# Altium schematic symbol library Amplifier_Audio.SchLib: 106 symbols (part 2 of 2)
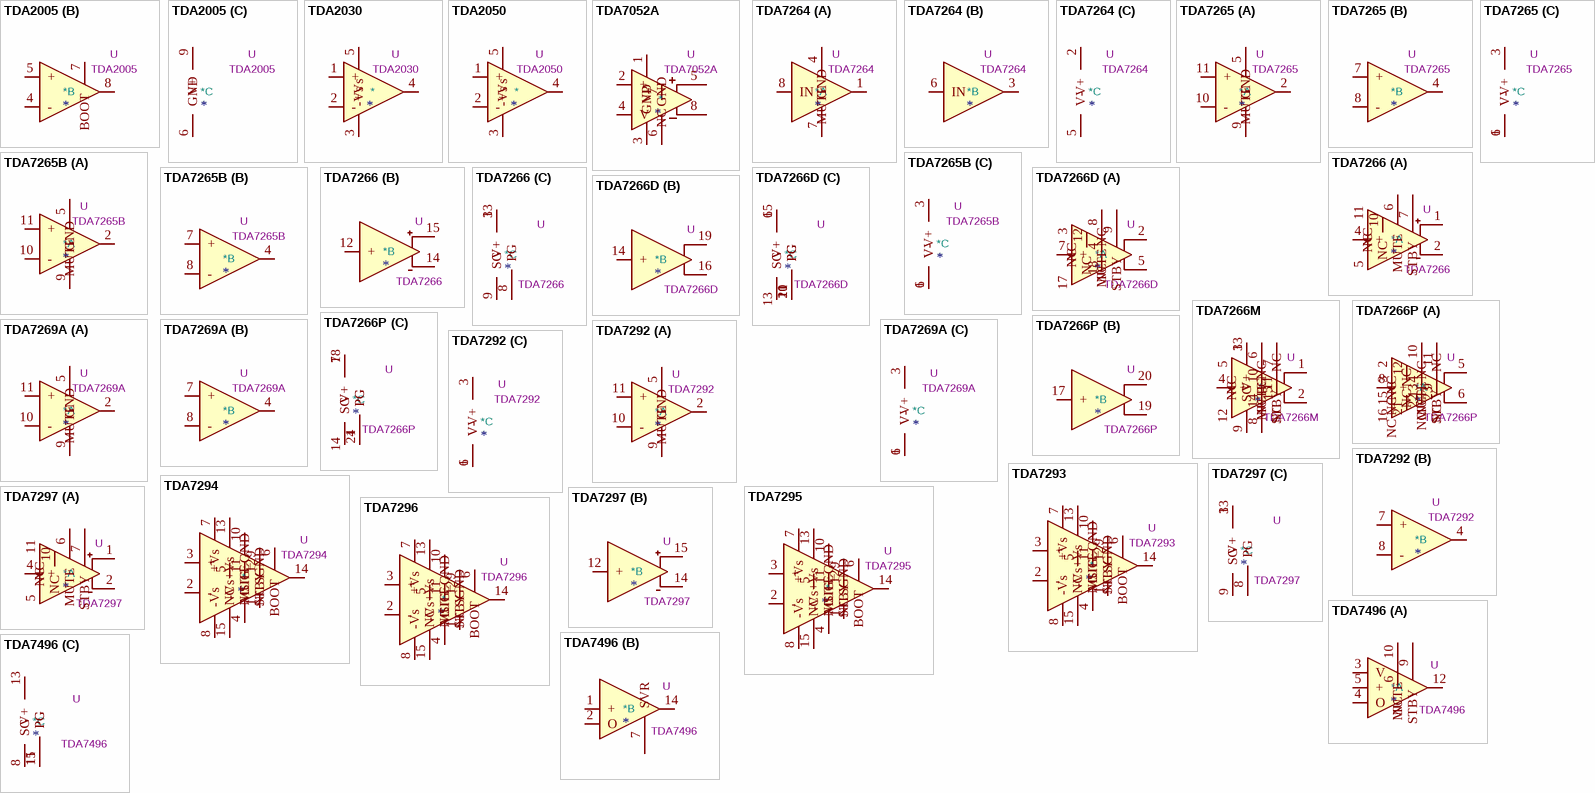
[diagram p5: symbols TDA2005 to TDA7496]

## TDA7266P
designator *  value TDA7266P  Reference: U
3W+3W Dual Bridge Amplifier, PowerSSO-24; ki_keywords: audio amplifier 2ch; ki_fp_filters: ST*PowerSSO*SlugDown*; Footprint: Package_SO:ST_PowerSSO-24_SlugDown; Datasheet: http://www.st.com/resource/en/datasheet/tda7266p.pdf; Description_: 3W+3W Dual Bridge Amplifier, PowerSSO-24
part A pins: 2 NC, 3 NC, 4 NC, 5, 6, 8 +, 9 NC, 10 MUTE, 11 STBY, 12 NC, 13 NC, 15 NC, 16 NC, 21 NC, 22 NC, 23 NC
part B pins: 17 +, 19, 20
part C pins: 1 PG, 7 V+, 14 SG, 18 V+, 24 PG

## TDA7269A
designator *  value TDA7269A  Reference: U
14W+14W Stereo Amplifier with Mute & St-by, TO-220-11; ki_keywords: audio amplfier 2ch; ki_fp_filters: TO?220*StaggerOdd*; Footprint: Package_TO_SOT_THT:TO-220-11_P3.4x5.08mm_StaggerOdd_Lead4.85mm_Vertical; Datasheet: http://www.st.com/resource/en/datasheet/tda7269a.pdf; Description_: 14W+14W Stereo Amplifier with Mute & St-by, TO-220-11
part A pins: 2, 5 MUTE, 9 GND, 10 -, 11 +
part B pins: 4, 7 +, 8 -
part C pins: 1 V-, 3 V+, 6 V-

## TDA7292
designator *  value TDA7292  Reference: U
40W + 40W stereo amplifier with mute and standby, TO-220-11; ki_keywords: audio amplifier 2ch; ki_fp_filters: TO?220*StaggerOdd*; Footprint: Package_TO_SOT_THT:TO-220-11_P3.4x5.08mm_StaggerOdd_Lead4.85mm_Vertical; Datasheet: http://www.st.com/resource/en/datasheet/tda7292.pdf; Description_: 40W + 40W stereo amplifier with mute and standby, TO-220-11
part A pins: 2, 5 MUTE, 9 GND, 10 -, 11 +
part B pins: 4, 7 +, 8 -
part C pins: 1 V-, 3 V+, 6 V-

## TDA7293
designator *  value TDA7293  Reference: U
120-volt, 100-watt, DMOS Audio Amplifier with Mute and Standby, TO-220-15; ki_fp_filters: TO?220*StaggerOdd*; Footprint: Package_TO_SOT_THT:TO-220-15_P2.54x2.54mm_StaggerOdd_Lead4.58mm_Vertical; Datasheet: http://www.st.com/resource/en/datasheet/tda7293.pdf; Description_: 120-volt, 100-watt, DMOS Audio Amplifier with Mute and Standby, TO-220-15; ki_keywords: audio amplifier
pins: 1 SGND, 2 -, 3 +, 4 SIG_GND, 5 NC, 6 BOOT, 7 +Vs, 8 -Vs, 9 STBY, 10 MUTE, 11 NC, 12 NC, 13 +Vs, 14, 15 -Vs

## TDA7294
designator *  value TDA7294  Reference: U
100V - 100W DMOS Audio Amplifier with Mute/St-by, TO-220-15; ki_fp_filters: TO?220*StaggerOdd*; Footprint: Package_TO_SOT_THT:TO-220-15_P2.54x2.54mm_StaggerOdd_Lead4.58mm_Vertical; Datasheet: http://www.st.com/resource/en/datasheet/tda7294.pdf; Description_: 100V - 100W DMOS Audio Amplifier with Mute/St-by, TO-220-15; ki_keywords: audio amplifier
pins: 1 SGND, 2 -, 3 +, 4 SIG_GND, 5 NC, 6 BOOT, 7 +Vs, 8 -Vs, 9 STBY, 10 MUTE, 11 NC, 12 NC, 13 +Vs, 14, 15 -Vs

## TDA7295
designator *  value TDA7295  Reference: U
80V - 80W DMOS Audio Amplifier with Mute/St-by, TO-220-15; ki_fp_filters: TO?220*StaggerOdd*; Footprint: Package_TO_SOT_THT:TO-220-15_P2.54x2.54mm_StaggerOdd_Lead4.58mm_Vertical; Datasheet: http://www.st.com/resource/en/datasheet/tda7295.pdf; Description_: 80V - 80W DMOS Audio Amplifier with Mute/St-by, TO-220-15; ki_keywords: audio amplifier
pins: 1 SGND, 2 -, 3 +, 4 SIG_GND, 5 NC, 6 BOOT, 7 +Vs, 8 -Vs, 9 STBY, 10 MUTE, 11 NC, 12 NC, 13 +Vs, 14, 15 -Vs

## TDA7296
designator *  value TDA7296  Reference: U
70V - 60W DMOS Audio Amplifier with Mute/St-by, TO-220-15; ki_fp_filters: TO?220*StaggerOdd*; Footprint: Package_TO_SOT_THT:TO-220-15_P2.54x2.54mm_StaggerOdd_Lead4.58mm_Vertical; Datasheet: http://www.st.com/resource/en/datasheet/tda7296.pdf; Description_: 70V - 60W DMOS Audio Amplifier with Mute/St-by, TO-220-15; ki_keywords: audio amplifier
pins: 1 SGND, 2 -, 3 +, 4 SIG_GND, 5 NC, 6 BOOT, 7 +Vs, 8 -Vs, 9 STBY, 10 MUTE, 11 NC, 12 NC, 13 +Vs, 14, 15 -Vs

## TDA7297
designator *  value TDA7297  Reference: U
15+15W Dual Bridge Amplifier, TO-220-15; ki_keywords: audio amplifier 2ch; ki_fp_filters: TO?220*StaggerOdd*; Footprint: Package_TO_SOT_THT:TO-220-15_P2.54x2.54mm_StaggerOdd_Lead4.58mm_Vertical; Datasheet: http://www.st.com/resource/en/datasheet/tda7297.pdf; Description_: 15+15W Dual Bridge Amplifier, TO-220-15
part A pins: 1, 2, 4 +, 5 NC, 6 MUTE, 7 STBY, 10 NC, 11 NC
part B pins: 12 +, 14, 15
part C pins: 3 V+, 8 PG, 9 SG, 13 V+

## TDA7496
designator *  value TDA7496  Reference: U
5W+5W Amplifier with DC Volume Control, TO-220-15; ki_keywords: audio amplifier 2ch; ki_fp_filters: TO?220*StaggerOdd*; Footprint: Package_TO_SOT_THT:TO-220-15_P2.54x2.54mm_StaggerOdd_Lead4.58mm_Vertical; Datasheet: http://www.st.com/resource/en/datasheet/tda7297.pdf; Description_: 5W+5W Amplifier with DC Volume Control, TO-220-15
part A pins: 3 V, 4 O, 5 +, 6 NC, 9 STBY, 10 MUTE, 12
part B pins: 1 +, 2 O, 7 SVR, 14
part C pins: 8 SG, 11 PG, 13 V+, 15 PG

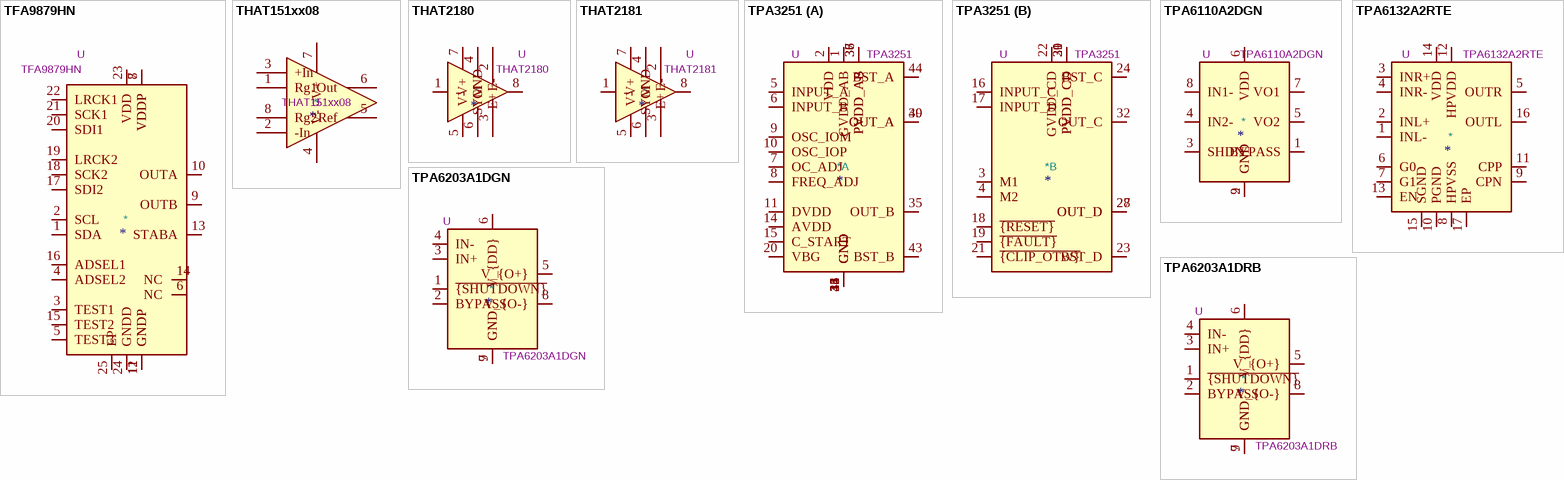
[diagram p4: symbols TFA9879HN to TPA6203A1DRB]

## TFA9879HN
designator *  value TFA9879HN  Reference: U
Mono BTL class-D audio amplifier for portable applications with digital input, HVQFN-24; ki_keywords: Audio Amplifier Class D NXP Semiconductors; ki_fp_filters: HVQFN*1EP*4x4mm*P0.5mm*; Footprint: Package_DFN_QFN:HVQFN-24-1EP_4x4mm_P0.5mm_EP2.6x2.6mm_ThermalVias; Datasheet: https://www.nxp.com/docs/en/data-sheet/TFA9879.pdf; Description_: Mono BTL class-D audio amplifier for portable applications with digital input, HVQFN-24
pins: 1 SDA, 2 SCL, 3 TEST1, 4 ADSEL2, 5 TEST3, 6 NC, 7 VDDP, 8 VDDP, 9 OUTB, 10 OUTA, 11 GNDP, 12 GNDP, 13 STABA, 14 NC, 15 TEST2, 16 ADSEL1, 17 SDI2, 18 SCK2, 19 LRCK2, 20 SDI1, 21 SCK1, 22 LRCK1, 23 VDD, 24 GNDD, 25 EP

## THAT151xx08
designator *  value THAT151xx08  Reference: U
Low-Noise, High Performance Audio Preamplifier IC; ki_fp_filters: DIP*W7.62mm* SOIC*3.9x4.9mm*P1.27mm*; Datasheet: https://www.thatcorp.com/datashts/THAT_1510-1512_Datasheet.pdf; Description_: Low-Noise, High Performance Audio Preamplifier IC; ki_keywords: Audio Preamplifier
pins: 1 Rg1, 2 -In, 3 +In, 4 V-, 5 Ref, 6 Out, 7 V+, 8 Rg2

## THAT2180
designator *  value THAT2180  Reference: U
Blackmer Pre-Trimmed IC Voltage Controlled Amplifiers, SIP-8; ki_keywords: audio vca; ki_fp_filters: SIP*19x3mm*P2.54mm*; Footprint: Package_SIP:SIP-8_19x3mm_P2.54mm; Datasheet: http://www.thatcorp.com/datashts/THAT_2180-Series_Datasheet.pdf; Description_: Blackmer Pre-Trimmed IC Voltage Controlled Amplifiers, SIP-8
pins: 1 -, 2 E+, 3 E-, 4 SYM, 5 V-, 6 GND, 7 V+, 8

## THAT2181
designator *  value THAT2181  Reference: U
Blackmer Trimmable IC Voltage Controlled Amplifiers, SIP-8/SOIC-8; ki_keywords: audio vca; ki_fp_filters: SIP*19x3mm*P2.54mm* SOIC*3.9x4.9mm*P1.27mm*; Datasheet: http://www.thatcorp.com/datashts/THAT_2181-Series_Datasheet.pdf; Description_: Blackmer Trimmable IC Voltage Controlled Amplifiers, SIP-8/SOIC-8
pins: 1 -, 2 E+, 3 E-, 4 SYM, 5 V-, 6 GND, 7 V+, 8

## TPA3251
designator *  value TPA3251  Reference: U
175-W Stereo, 350-W Mono PurePath Ultra-HD Analog-Input Class-D Amplifier, HTSSOP-44; ki_keywords: stereo class d amplifier; ki_fp_filters: HTSSOP*6.1x14mm*P0.635mm*; Footprint: Package_SO:HTSSOP-44_6.1x14mm_P0.635mm_TopEP4.14x7.01mm; Datasheet: http://www.ti.com/lit/ds/symlink/tpa3251.pdf; Description_: 175-W Stereo, 350-W Mono PurePath Ultra-HD Analog-Input Class-D Amplifier, HTSSOP-44
part A pins: 1 GVDD_AB, 2 VDD, 5 INPUT_A, 6 INPUT_B, 7 OC_ADJ, 8 FREQ_ADJ, 9 OSC_IOM, 10 OSC_IOP, 11 DVDD, 12 GND, 13 GND, 14 AVDD, 15 C_START, 20 VBG, 25 GND, 26 GND, 33 GND, 34 GND, 35 OUT_B, 36 PVDD_AB, 37 PVDD_AB, 38 PVDD_AB, 39 OUT_A, 40 OUT_A, 41 GND, 42 GND, 43 BST_B, 44 BST_A
part B pins: 3 M1, 4 M2, 16 INPUT_C, 17 INPUT_D, 18 ~{{RESET}}, 19 ~{{FAULT}}, 21 ~{{CLIP_OTW}}, 22 GVDD_CD, 23 BST_D, 24 BST_C, 27 OUT_D, 28 OUT_D, 29 PVDD_CD, 30 PVDD_CD, 31 PVDD_CD, 32 OUT_C

## TPA6110A2DGN
designator *  value TPA6110A2DGN  Reference: U
150-mW Stereo Audio Power Amplifier, HVSSOP; ki_keywords: audio amplifier headphone; ki_fp_filters: HVSSOP*3x3mm*P0.65mm*; Footprint: Package_SO:HVSSOP-8-1EP_3x3mm_P0.65mm_EP1.57x1.89mm; Datasheet: https://www.ti.com/lit/ds/symlink/tpa6110a2.pdf; Description_: 150-mW Stereo Audio Power Amplifier, HVSSOP
pins: 1 BYPASS, 2 GND, 3 SHDN, 4 IN2-, 5 VO2, 6 VDD, 7 VO1, 8 IN1-, 9 GND

## TPA6132A2RTE
designator *  value TPA6132A2RTE  Reference: U
25mW, Stereo, DirectPath Audio Amplifier, WQFN-16; ki_keywords: DirectPath audio amplifier Stereo; ki_fp_filters: WQFN*1EP*3x3mm*P0.5mm*; Footprint: Package_DFN_QFN:WQFN-16-1EP_3x3mm_P0.5mm_EP1.6x1.6mm_ThermalVias; Datasheet: https://www.ti.com/lit/ds/symlink/tpa6132a2.pdf; Description_: 25mW, Stereo, DirectPath Audio Amplifier, WQFN-16
pins: 1 INL-, 2 INL+, 3 INR+, 4 INR-, 5 OUTR, 6 G0, 7 G1, 8 HPVSS, 9 CPN, 10 PGND, 11 CPP, 12 HPVDD, 13 EN, 14 VDD, 15 SGND, 16 OUTL, 17 EP

## TPA6203A1DGN
designator *  value TPA6203A1DGN  Reference: U
1.25W, Mono, Differential Audio Amplifier, MSOP-8; ki_keywords: Differential audio amplifier Mono; ki_fp_filters: MSOP*1EP*3x3mm*P0.65mm*; Footprint: Package_SO:MSOP-8-1EP_3x3mm_P0.65mm_EP1.95x2.15mm_ThermalVias; Datasheet: https://www.ti.com/lit/ds/symlink/tpa6203a1.pdf; Description_: 1.25W, Mono, Differential Audio Amplifier, MSOP-8
pins: 1 ~{{SHUTDOWN}}, 2 BYPASS, 3 IN+, 4 IN-, 5 V_{O+}, 6 V_{DD}, 7 GND, 8 V_{O-}, 9 GND

## TPA6203A1DRB
designator *  value TPA6203A1DRB  Reference: U
1.25W, Mono, Differential Audio Amplifier, VSON-8; ki_keywords: Differential audio amplifier Mono; ki_fp_filters: Texas*DRB*; Footprint: Package_DFN_QFN:Texas_DRB0008A; Datasheet: https://www.ti.com/lit/ds/symlink/tpa6203a1.pdf; Description_: 1.25W, Mono, Differential Audio Amplifier, VSON-8
pins: 1 ~{{SHUTDOWN}}, 2 BYPASS, 3 IN+, 4 IN-, 5 V_{O+}, 6 V_{DD}, 7 GND, 8 V_{O-}, 9 GND